# EAGLE library part BQ51013B (library masterthesis)
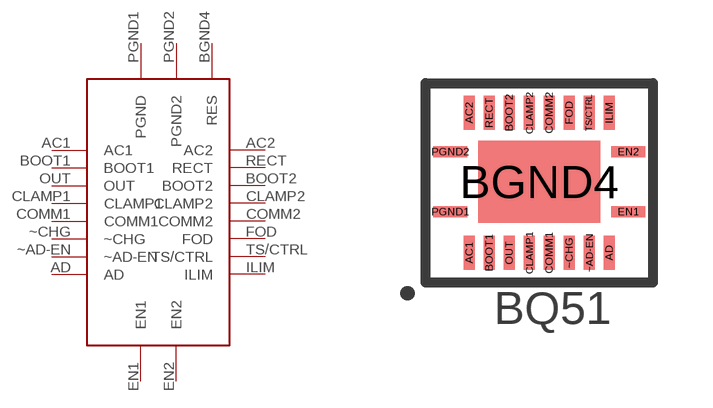
[diagram p0: symbol with the pads of VQFN; footprint VQFN]

Designator prefix -

## BQ51013B  [VQFN]
AC1  AC1
AC2  AC2
AD  AD
BGND4  RES
BOOT1  BOOT1
BOOT2  BOOT2
CLAMP1  CLAMP1
CLAMP2  CLAMP2
COMM1  COMM1
COMM2  COMM2
EN1  EN1
EN2  EN2
FOD  FOD
ILIM  ILIM
OUT  OUT
PGND1  PGND
PGND2  PGND2
RECT  RECT
TS/CTRL  TS/CTRL
~AD-EN  ~AD-EN
~CHG  ~CHG

## Footprint VQFN (pad centres in mm)
smd 0.28 x 0.85: AC1 -1.5,-1.775; AC2 -1.5,1.725; AD 2,-1.775; BOOT1 -1,-1.775; BOOT2 -0.5,1.725; CLAMP1 0,-1.775; CLAMP2 0,1.725; COMM1 0.5,-1.775; COMM2 0.5,1.725; FOD 1,1.725; ILIM 2,1.725; OUT -0.5,-1.775; RECT -1,1.725; TS/CTRL 1.5,1.725; ~AD-EN 1.5,-1.775; ~CHG 1,-1.775
smd 3.05 x 2.05: BGND4 0.25,0
smd 0.85 x 0.28: EN1 2.475,-0.75; EN2 2.475,0.75; PGND1 -1.975,-0.75; PGND2 -1.975,0.75